# EAGLE library part INA300 (library ICs)
Current Sense Regulator High/Low-Side 10-VSSOP
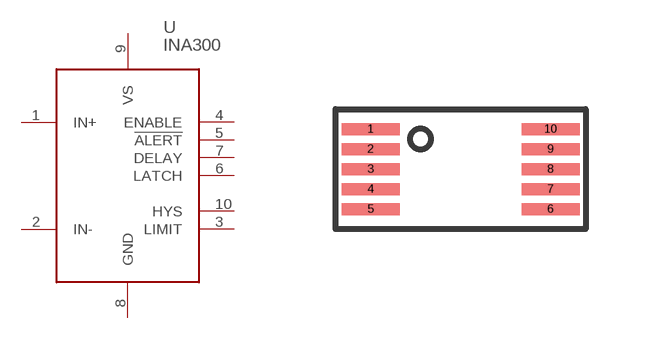
[diagram p249: symbol with the pads of VSSOP10; footprint VSSOP10]

Designator prefix U

## INA300AIDGST (DIGIKEY: 296-52643-2-ND; HEIGHT: 1; PRICE_PER: 1.21; VALUE: INA300)  [VSSOP10]
1  IN+
2  IN-
3  LIMIT
4  ENABLE
5  !ALERT
6  LATCH
7  DELAY
8  GND
9  VS
10  HYS

## Footprint VSSOP10 (pad centres in mm)
smd 1.45 x 0.3: 1 -2.25,1; 2 -2.25,0.5; 3 -2.25,0; 4 -2.25,-0.5; 5 -2.25,-1; 6 2.25,-1; 7 2.25,-0.5; 8 2.25,0; 9 2.25,0.5; 10 2.25,1